# EAGLE library part AD8021 (library EEG)
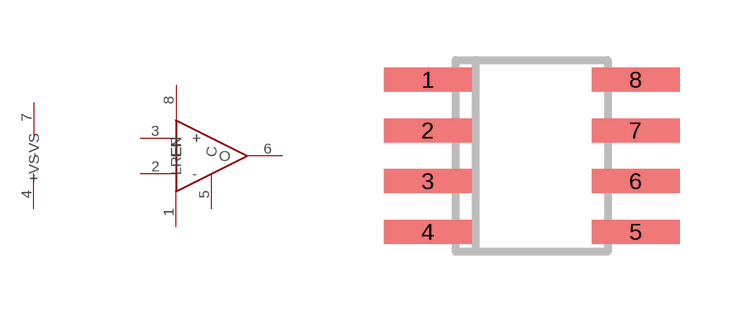
[diagram p0: symbol with the pads of SOIC8; footprint SOIC8]

Designator prefix -; gates IC=AD8021 SUPPLY=AD8021_SUP

## AD8021  [SOIC8]
1  IC:LREF
2  IC:-
3  IC:+
4  SUPPLY:-VS
5  IC:C
6  IC:O
7  SUPPLY:+VS
8  IC:EN

## Footprint SOIC8 (pad centres in mm)
Small Outline IC
smd 2.2 x 0.6: 1 -2.6,1.905; 2 -2.6,0.635; 3 -2.6,-0.635; 4 -2.6,-1.905; 5 2.6,-1.905; 6 2.6,-0.635; 7 2.6,0.635; 8 2.6,1.905